# Altium schematic symbol library Schlib1.SchLib: 28 symbols
Pins are listed as number, name and electrical type; pins without a type are passive.

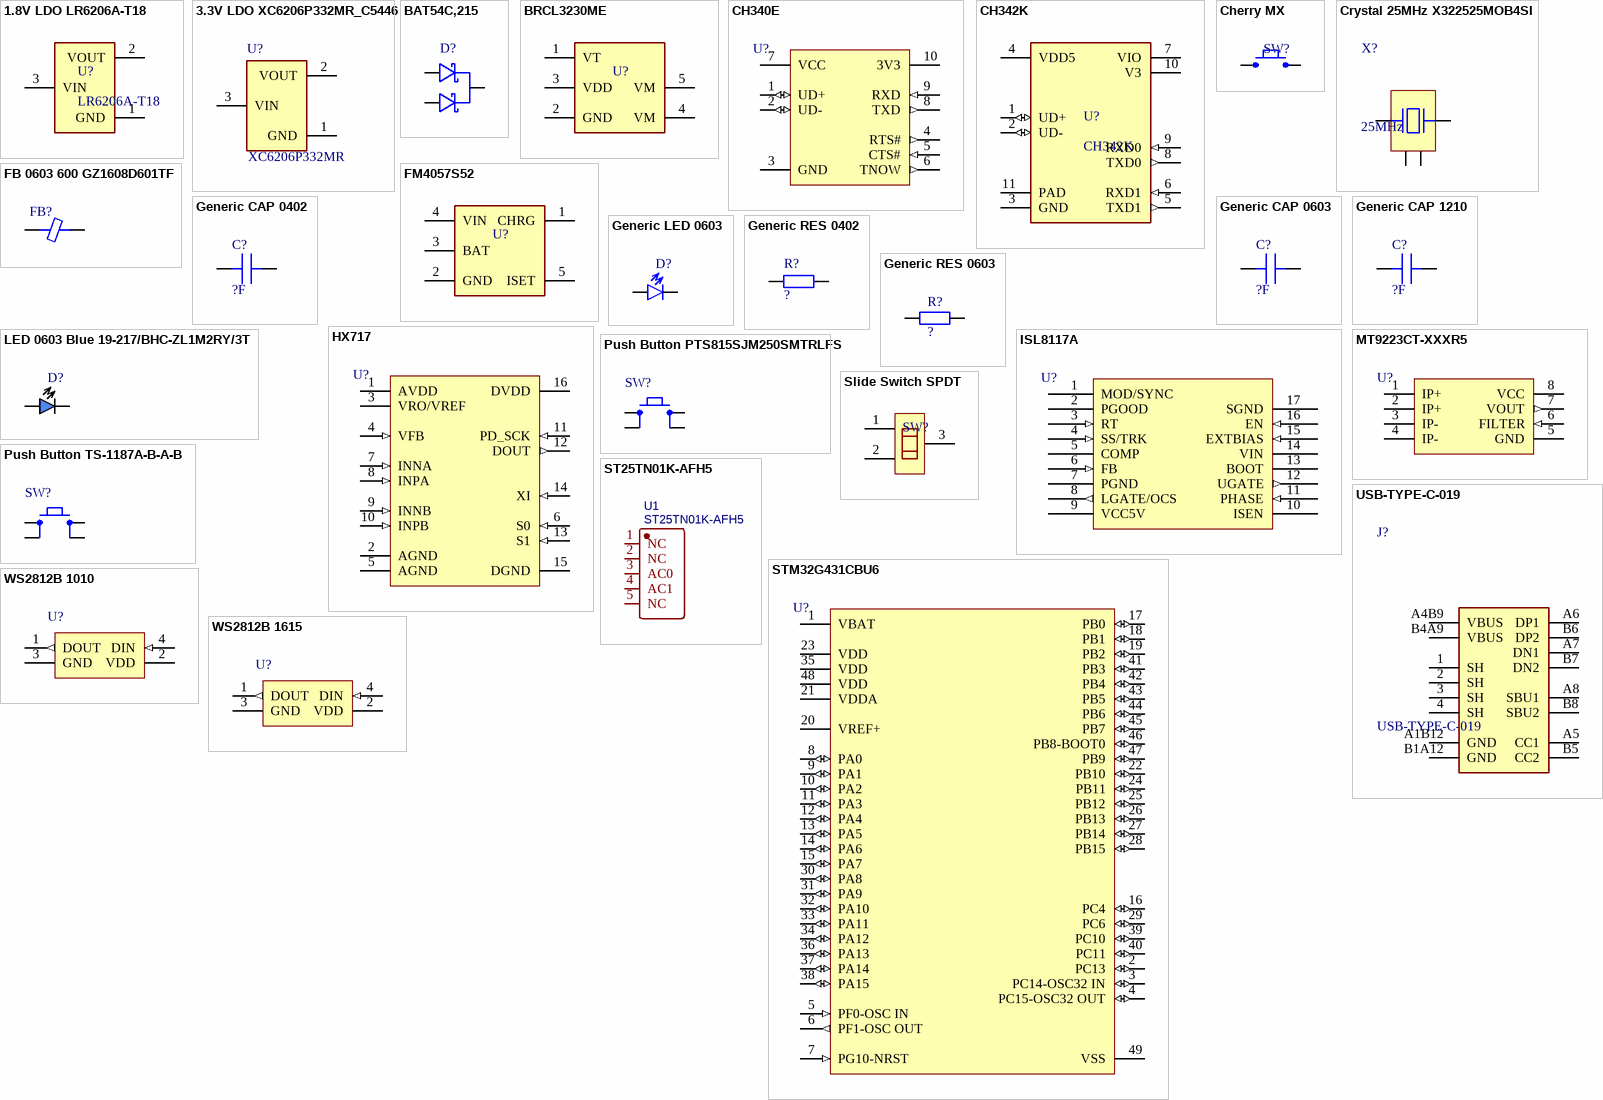
[diagram p0: symbols 1.8V LDO LR6206A-T18 to WS2812B 1615]

## 1.8V LDO LR6206A-T18
designator U?, comment LR6206A-T18
300mA 55dB@(1kHz) Fixed 1.8V Positive electrode 6.5V SOT-23-3L Voltage Regulators - Linear, Low Drop Out (LDO) Regulators ROHS
footprint SOT-23-3
pins: 1 GND (power), 2 VOUT (power), 3 VIN (power)

## 3.3V LDO XC6206P332MR_C5446
designator U?, comment XC6206P332MR
Output Type: Output Polarity:Positive Number of Outputs:1 Maximum Input Voltage:6V Output Voltage:3.3V~3.3V Output Voltage:3.3V~3.3V Dropout Voltage:680mV@(100mA) Output Current:200mA Power Supply Rejection Ratio (PSRR):-; Manufacturer: TOREX(特瑞仕); Device: XC6206P332MR_C5446; Add into BOM: yes; Number of Outputs: 1; Maximum Input Voltage: 6V; Output Current: 200mA; Symbol: XC6206P332MR; LCSC Part Name: 正 Vin=6V Vout=3.3V 200mA; Supplier Part: C5446; Manufacturer Part: XC6206P332MR; Supplier Footprint: SOT-23-3L; JLCPCB Part Class: Basic Part; Datasheet: https://atta.szlcsc.com/upload/public/pdf/source/20130801/1457706628791.pdf; Supplier: LCSC; Convert to PCB: yes; Output Polarity: Positive; Output Voltage: 3.3V~3.3V; Dropout Voltage: 680mV@(100mA); Power Supply Rejection Ratio (PSRR): -
footprint SOT-23-3
pins: 1 GND (power), 2 VOUT (power), 3 VIN (power)

## BAT54C,215
designator D?  (value not drawn)
Reverse Voltage (Vr):30V Average Rectified Current (Io):200mA Forward Voltage (Vf@If):800mV@100mA; Manufacturer: Nexperia(安世); Add into BOM: yes; Reverse Voltage (Vr): 30V; Average Rectified Current (Io): 200mA; Symbol: BAT54C,215; Device: BAT54C,215; LCSC Part Name: 30V 200mA 800mV@100mA; Supplier Part: C37704; Manufacturer Part: BAT54C,215; Supplier Footprint: SOT-23; JLCPCB Part Class: Basic Part; Datasheet: https://atta.szlcsc.com/upload/public/pdf/source/20141025/1457707245507.pdf; Supplier: LCSC; Convert to PCB: yes; Forward Voltage (Vf@If): 800mV@100mA
footprint SOT-23-3
pins: 1 A, 2 A, 3 K

## BRCL3230ME
designator U?
Lithium Battery 1 SOT-23-5 Battery Management ROHS
footprint SOT-23-5
pins: 1 VT, 2 GND, 3 VDD, 4 VM, 5 VM

## CH340E
designator U?
footprint MSOP-UN10_L (TSSOP, 10-Leads, Body 3x3mm, Pitch 0.5mm, IPC High Density)
pins: 1 UD+ (io), 2 UD- (io), 3 GND (power), 4 RTS# (out), 5 CTS# (in), 6 TNOW (out), 7 VCC (power), 8 TXD (out), 9 RXD (in), 10 3V3 (power)

## CH342K
designator U?
ESSOP-10-150mil USB Converters ROHS
footprint SSOP-10_L5.0-W3.9-P1.00-LS6.0-BL-EP
pins: 1 UD+ (io), 2 UD- (io), 3 GND (power), 4 VDD5 (power), 5 TXD1 (out), 6 RXD1 (in), 7 VIO (power), 8 TXD0 (out), 9 RXD0 (in), 10 V3 (power), 11 PAD (power)

## Cherry MX
designator SW?
footprint CHERRY MX 1U
footprint CHERRY MX 1U HOTSWAP
footprint CHERRY MX 6.25U
footprint CHERRY MX 6.25U HOTSWAP
footprint CHERRY MX 2U
footprint CHERRY MX 2U HOTSWAP
pins: 1, 2

## Crystal 25MHz X322525MOB4SI
designator X?, comment 25MHz
Crystal Type:SMD Crystal Resonator Frequency: Frequency Tolerance:±10ppm Frequency Tolerance:±10ppm Frequency Stability:±30ppm Frequency Stability:±30ppm Load Capacitance: Operating Temperature: Operating Temperature:; Manufacturer: YXC(扬兴晶振); Symbol: X322525MOB4SI; Add into BOM: yes; Frequency Tolerance: ±10ppm; Frequency Stability: ±30ppm; Device: X322525MOB4SI; LCSC Part Name: 25MHz ±10ppm 12pF; Supplier Part: C9006; Manufacturer Part: X322525MOB4SI; Supplier Footprint: SMD3225-4P; JLCPCB Part Class: Basic Part; Datasheet: https://atta.szlcsc.com/upload/public/pdf/source/20210329/C112971_1F611BDC486E193C1706F6D8EB5AA189.pdf; Supplier: LCSC; Convert to PCB: yes; Crystal Type: SMD Crystal Resonator; Value: 25MHz
footprint OSC-SMD_4P-L3.2-W2.5-BL
pins: 1, 2, 3, 4

## FB 0603 600 GZ1608D601TF
designator FB?, comment GZ1608D601TF  (value not drawn)
Impedance @ Frequency:600Ω@100MHz Tolerance:±25% Tolerance:±25% DC Resistance:450mΩ Current Rating:200mA Circuits:1; Manufacturer: Sunlord(顺络); Add into BOM: yes; Tolerance: ±25%; DC Resistance: 450mΩ; Current Rating: 200mA; Circuits: 1; Symbol: GZ1608D601TF; Device: GZ1608D601TF; LCSC Part Name: 600Ω@100MHz ±25%; Supplier Part: C1002; Manufacturer Part: GZ1608D601TF; Supplier Footprint: 0603; JLCPCB Part Class: Basic Part; Datasheet: https://atta.szlcsc.com/upload/public/pdf/source/20210830/355EA7C0FAC5394FC0FE3F17C770C20A.pdf; Supplier: LCSC; Convert to PCB: yes; Impedance @ Frequency: 600Ω@100MHz
footprint IPC C L0603 NO SILK (Chip Inductor, 2-Leads, Body 1.52x0.76mm, IPC High Density)
pins: 1, 2

## FM4057S52
designator U?
SOT-23-5 1S Battery Charger ROHS
footprint SOT-23-5
pins: 1 CHRG, 2 GND, 3 BAT, 4 VIN, 5 ISET

## Generic CAP 0402
designator C?, comment ?F
Value: ?F
footprint IPC C C0402 NO SILK (Chip Capacitor, 2-Leads, Body 1.02x0.51mm, IPC High Density)
pins: 1, 2

## Generic CAP 0603
designator C?, comment ?F
Value: ?F
footprint IPC C C0603 NO SILK (Chip Capacitor, 2-Leads, Body 1.52x0.76mm, IPC High Density)
pins: 1, 2

## Generic CAP 1210
designator C?, comment ?F
Value: ?F
footprint IPC C C1210 NO SILK (Chip Capacitor, 2-Leads, Body 3.05x2.54mm, IPC High Density)
pins: 1, 2

## Generic LED 0603
designator D?
footprint IPC C D0603 (Chip Diode, 2-Leads, Body 1.52x0.76mm, IPC High Density)
pins: 1 A, 2 C

## Generic RES 0402
designator R?, comment ?
Value: ?
footprint IPC C R0402 NO SILK (Chip Resistor, 2-Leads, Body 1.02x0.51mm, IPC High Density)
pins: 1, 2

## Generic RES 0603
designator R?, comment ?
Value: ?
footprint IPC C R0603 NO SILK (Chip Resistor, 2-Leads, Body 1.52x0.76mm, IPC High Density)
pins: 1, 2

## HX717
designator U?
footprint SOIC127P600X160-16L (SOIC, 16-Leads, Body 9.90x3.90mm, Pitch 1.27mm, IPC High Density)
pins: 1 AVDD (power), 2 AGND (power), 3 VRO/VREF, 4 VFB (in), 5 AGND (power), 6 S0 (in), 7 INNA (in), 8 INPA (in), 9 INNB (in), 10 INPB (in), 11 PD_SCK (in), 12 DOUT (out), 13 S1 (in), 14 XI (in), 15 DGND (power), 16 DVDD (power)

## ISL8117A
designator U?
JLCPCB Part No: C1530470
footprint QFN50P400X400X80_HS-17L (QFN, 16-Leads, Body 4.00x4.00mm, Pitch 0.50mm, Thermal Pad 2.40x2.40mm, IPC High Density)
pins: 1 MOD/SYNC, 2 PGOOD, 3 RT (in), 4 SS/TRK (in), 5 COMP, 6 FB (in), 7 PGND (power), 8 LGATE/OCS (out), 9 VCC5V (power), 10 ISEN, 11 PHASE (in), 12 UGATE (out), 13 BOOT, 14 VIN (power), 15 EXTBIAS (in), 16 EN (in), 17 SGND (power)

## LED 0603 Blue 19-217/BHC-ZL1M2RY/3T
designator D?, comment 19-217/BHC-ZL1M2RY/3T  (value not drawn)
Mounting Type:SurfaceMount Illumination Color:Blue Luminous Intensity (IF=20mA): Dominant Wavelength / Coordinate rank:; Manufacturer: EVERLIGHT(亿光); Add into BOM: yes; Illumination Color: Blue; Symbol: 19-217/BHC-ZL1M2RY/3T; LCSC Part Name: 0603 蓝灯; Supplier Part: C72041; Manufacturer Part: 19-217/BHC-ZL1M2RY/3T; Supplier Footprint: 0603; JLCPCB Part Class: Basic Part; Datasheet: https://atta.szlcsc.com/upload/public/pdf/source/20170116/1484561237273.pdf; Supplier: LCSC; Convert to PCB: yes; Mounting Type: SurfaceMount
footprint IPC C D0603 (Chip Diode, 2-Leads, Body 1.52x0.76mm, IPC High Density)
pins: 1 A, 2 C

## MT9223CT-XXXR5
designator U?
footprint SOP127P600X175-8L (SOP, 8-Leads, Body 4.90x3.90mm, Pitch 1.27mm, IPC High Density)
pins: 1 IP+, 2 IP+, 3 IP-, 4 IP-, 5 GND (power), 6 FILTER (in), 7 VOUT (out), 8 VCC (power)

## Push Button PTS815SJM250SMTRLFS
designator SW?, comment PTS815SJM250SMTRLFS  (value not drawn)
Manufacturer: C&K; Symbol: PTS815SJM250SMTRLFS; Device: PTS815SJM250SMTRLFS; LCSC Part Name: 4.20*3.20用于SMT的轻触开关; Supplier Part: C2689510; Manufacturer Part: PTS815SJM250SMTRLFS; Supplier Footprint: SMD,3.2x4.2mm; JLCPCB Part Class: Extended Part; Datasheet: https://atta.szlcsc.com/upload/public/pdf/source/20210426/C2689510_3E3D7BFCEB769A9F83FFBA6DE03AECAC.pdf; Supplier: LCSC
footprint KEY-SMD_4P-L4.2-W3.25-P2.15-TL
pins: 1, 2, 3, 4

## Push Button TS-1187A-B-A-B
designator SW?, comment TS-1187A-B-A-B  (value not drawn)
Add into BOM: yes; Symbol: TS-1187A-B-A-B; Device: TS-1187A-B-A-B; Supplier Part: C318884; Manufacturer Part: TS-1187A-B-A-B; JLCPCB Part Class: Basic Part; Supplier: LCSC; Convert to PCB: yes
footprint TS-1187A-B-A-B
pins: 1, 2, 3, 4

## Slide Switch SPDT
designator SW?
footprint Brick nogging SPDT
pins: 1, 2, 3

## ST25TN01K-AFH5
designator U1
BOM_Manufacturer: ST(意法半导体); Contributor: lcsc; BOM_Supplier: LCSC; BOM_Supplier Part: C3303589; BOM_Manufacturer Part: ST25TN01K-AFH5; link: https://atta.szlcsc.comnull; spicePre: U; spiceSymbolName: ST25TN01K-AFH5
footprint UFDFPN-5_L1.7-W1.4-P0.40-BL
pins: 1 NC, 2 NC, 3 AC0, 4 AC1, 5 NC

## STM32G431CBU6
designator U?
footprint QFN50P700X700X60_HS-49L (QFN, 48-Leads, Body 7.00x7.00mm, Pitch 0.50mm, Thermal Pad 5.60x5.60mm, IPC High Density)
pins: 1 VBAT (power), 2 PC13 (io), 3 PC14-OSC32 IN (io), 4 PC15-OSC32 OUT (io), 5 PF0-OSC IN (in), 6 PF1-OSC OUT (out), 7 PG10-NRST (in), 8 PA0 (io), 9 PA1 (io), 10 PA2 (io), 11 PA3 (io), 12 PA4 (io), 13 PA5 (io), 14 PA6 (io), 15 PA7 (io), 16 PC4 (io), 17 PB0 (io), 18 PB1 (io), 19 PB2 (io), 20 VREF+, 21 VDDA (power), 22 PB10 (io), 23 VDD (power), 24 PB11 (io), 25 PB12 (io), 26 PB13 (io), 27 PB14 (io), 28 PB15 (io), 29 PC6 (io), 30 PA8 (io), 31 PA9 (io), 32 PA10 (io), 33 PA11 (io), 34 PA12 (io), 35 VDD (power), 36 PA13 (io), 37 PA14 (io), 38 PA15 (io), 39 PC10 (io), 40 PC11 (io), 41 PB3 (io), 42 PB4 (io), 43 PB5 (io), 44 PB6 (io), 45 PB7 (io), 46 PB8-BOOT0 (io), 47 PB9 (io), 48 VDD (power), 49 VSS (power)

## USB-TYPE-C-019
designator J?
Connector Type:Type-C Standard:- Gender:Female Number of Contacts:16 Number of Ports:1 Mounting Style:Surface Mount Current Rating - Power (Max):3A Operating Temperature Range:-25℃~+85℃ Operating Temperature Range:-25℃~+85℃; Manufacturer: DEALON(德艺隆); Add into BOM: yes; Connector Type: Type-C; Gender: Female; Number of Contacts: 16; Number of Ports: 1; Current Rating - Power (Max): 3A; Symbol: USB-TYPE-C-019; Device: USB-TYPE-C-019; LCSC Part Name: Type-C 母座 卧贴; Supplier Part: C2927039; Manufacturer Part: USB-TYPE-C-019; Supplier Footprint: SMD; JLCPCB Part Class: Extended Part; Datasheet: https://atta.szlcsc.com/upload/public/pdf/source/20211217/CCD3D517E355E8E0CC52ABD8D5784AD8.pdf; Supplier: LCSC; Convert to PCB: yes; Standard: -; Mounting Style: Surface Mount; Operating Temperature Range: -25℃~+85℃
footprint USB-TYPE-C-12+4P
pins: 1 SH, 2 SH, 3 SH, 4 SH, A1B12 GND (power), A4B9 VBUS (power), A5 CC1, A6 DP1, A7 DN1, A8 SBU1, B1A12 GND (power), B4A9 VBUS (power), B5 CC2, B6 DP2, B7 DN2, B8 SBU2

## WS2812B 1010
designator U?  (value not drawn)
footprint WS2812B 1010
pins: 1 DOUT (out), 2 VDD (power), 3 GND (power), 4 DIN (in)

## WS2812B 1615
designator U?  (value not drawn)
footprint WS2812B 1615
pins: 1 DOUT (out), 2 VDD (power), 3 GND (power), 4 DIN (in)